# Altium schematic symbol library MOSFETs.SchLib: 4 symbols
Pins are listed as number, name and electrical type; pins without a type are passive.

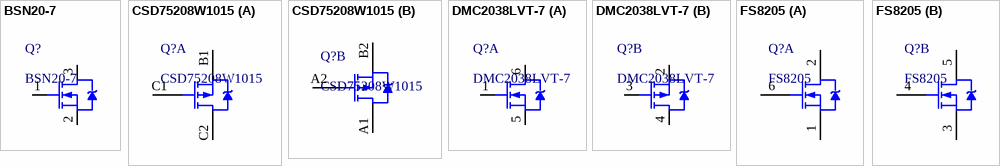
[diagram p0: symbols BSN20-7 to FS8205]

## BSN20-7
designator Q?
MOSFET N-CH 50V 500MA SOT23; Manufacturer: Diodes Incorporated; FET Type: N-Channel; Current - Continuous Drain (Id) @ 25°C: 500mA (Ta); Drive Voltage (Max Rds On,  Min Rds On): 4.5V, 10V; Vgs(th) (Max) @ Id: 1.5V @ 250µA; Gate Charge (Qg) (Max) @ Vgs: 0.8nC @ 10V; Input Capacitance (Ciss) (Max) @ Vds: 40pF @ 10V; Vgs (Max): ±20V; Power Dissipation (Max): 600mW (Ta); Rds On (Max) @ Id, Vgs: 1.8 Ohm @ 220mA, 10V; Supplier 1: Digi-Key; Supplier Part Number 1: BSN20-7DICT-ND; Manufacturer Part Number: BSN20-7; RoHS: RoHS Compliant; Category: Discrete Semiconductor Products; Stock 1: 30673; Pricing 1: 1=0.37, 10=0.306, 100=0.1621, 500=0.10666, 1000=0.07253 (USD); Packaging: Cut Tape (CT); Part Status: Active; Technology: MOSFET (Metal Oxide); Drain to Source Voltage (Vdss): 50V; FET Feature: -; Operating Temperature: -55°C ~ 150°C (TJ); Mounting Type: Surface Mount; Supplier Device Package: SOT-23; ComponentLink1URL: http://www.diodes.com/assets/Datasheets/ds31898.pdf; ComponentLink1Description: http://www.diodes.com/assets/Datasheets/ds31898.pdf; Package: TO-236-3, SC-59, SOT-23-3
footprint SOT-23 (SOT23, 3-Leads, Body 3.0x2.5mm (max), Pitch 0.95mm, IPC Medium Density)
pins: 1 G, 2 S, 3 D

## CSD75208W1015
designator Q?
MOSFET 2P-CH 20V 1.6A 6WLP; Manufacturer: Texas Instruments; FET Type: 2 P-Channel (Dual) Common Source; FET Feature: Logic Level Gate; Rds On (Max) @ Id, Vgs: 68 mOhm @ 1A, 4.5V; Vgs(th) (Max) @ Id: 1.1V @ 250µA; Gate Charge (Qg) (Max) @ Vgs: 2.5nC @ 4.5V; Input Capacitance (Ciss) (Max) @ Vds: 410pF @ 10V; Power - Max: 750mW; Supplier 1: Digi-Key; Supplier Part Number 1: 296-38339-1-ND; Manufacturer Part Number: CSD75208W1015; RoHS: RoHS Compliant; Category: Discrete Semiconductor Products; Stock 1: 9192; Pricing 1: 1=0.6, 10=0.51, 100=0.3807, 500=0.29912, 1000=0.23113 (USD); Packaging: Cut Tape (CT); Part Status: Active; Drain to Source Voltage (Vdss): 20V; Current - Continuous Drain (Id) @ 25°C: 1.6A; Operating Temperature: -55°C ~ 150°C (TJ); Mounting Type: Surface Mount; Supplier Device Package: 6-DSBGA; ComponentLink1URL: http://www.ti.com/lit/ds/symlink/csd75208w1015.pdf; ComponentLink1Description: http://www.ti.com/lit/ds/symlink/csd75208w1015.pdf; Package: 6-UFBGA, DSBGA
footprint DSBGA6 (1015)
part A pins: B1 S "Source", C1 G1 "Gate1", C2 D1 "Drain1"
part B pins: A1 D2 "Drain2", A2 G2 "Gate2", B2 S "Source"

## DMC2038LVT-7
designator Q?
MOSFET N/P-CH 20V TSOT26; Manufacturer: Diodes Incorporated; FET Type: N and P-Channel; FET Feature: Logic Level Gate; Current - Continuous Drain (Id) @ 25°C: 3.7A, 2.6A; Rds On (Max) @ Id, Vgs: 35 mOhm @ 4A, 4.5V; Vgs(th) (Max) @ Id: 1V @ 250µA; Gate Charge (Qg) (Max) @ Vgs: 17nC @ 10V; Input Capacitance (Ciss) (Max) @ Vds: 530pF @ 10V; Power - Max: 800mW; Supplier 1: Digi-Key; Manufacturer Part Number: DMC2038LVT-7; RoHS: RoHS Compliant; Category: Discrete Semiconductor Products; Stock 1: 58462; Pricing 1: 1=0.39, 10=0.29, 100=0.1808, 500=0.12372, 1000=0.09517 (USD); Packaging: Cut Tape (CT); Part Status: Active; Drain to Source Voltage (Vdss): 20V; Operating Temperature: -55°C ~ 150°C (TJ); Mounting Type: Surface Mount; Package / Case: SOT-23-6 Thin, TSOT-23-6; Supplier Device Package: TSOT-26; ComponentLink1URL: http://www.diodes.com/assets/Datasheets/DMC2038LVT.pdf; ComponentLink1Description: http://www.diodes.com/assets/Datasheets/DMC2038LVT.pdf; Supplier Part Number 1: DMC2038LVT-7DICT-ND
footprint SOT-23-6 Thin (TSOT-26)
part A pins: 1 G, 5 S, 6 D
part B pins: 2 S, 3 G, 4 D

## FS8205
designator Q?
MOSFET 2N-CH 20V 4.0A SOT23-6; Manufacturer: Fortune; FET Type: 2 N-Channel (Dual) Common Drain; FET Feature: Logic Level Gate; Manufacturer Part Number: FS8205; Category: Discrete Semiconductor Products; Drain to Source Voltage (Vdss): 20V; Current - Continuous Drain (Id) @ 25°C: 4.0A; Mounting Type: Surface Mount; Supplier Device Package: SOT23-6; ComponentLink1URL: http://www.sz-hxdz.com/uploadfile/pdf/201505181114403630.pdf; ComponentLink1Description: http://www.sz-hxdz.com/uploadfile/pdf/201505181114403630.pdf; Package: SOT23-6
footprint SOT-23-6 (SOT23, 6-Leads, Body 3.0x3.0mm (max), Pitch 0.95mm, IPC Medium Density)
part A pins: 1 S1, 2 D, 6 G1
part B pins: 3 S2, 4 G2, 5 D